# EAGLE library part ADSP-21489KSWZ-5B (library DSPs)
IC CCD SIGNAL PROCESSOR 208LQFP Manufacturer's datasheet <https://www.analog.com/media/en/technical-documentation/data-sheets/ADSP-21483_21486_21487_21488_21489.pdf>
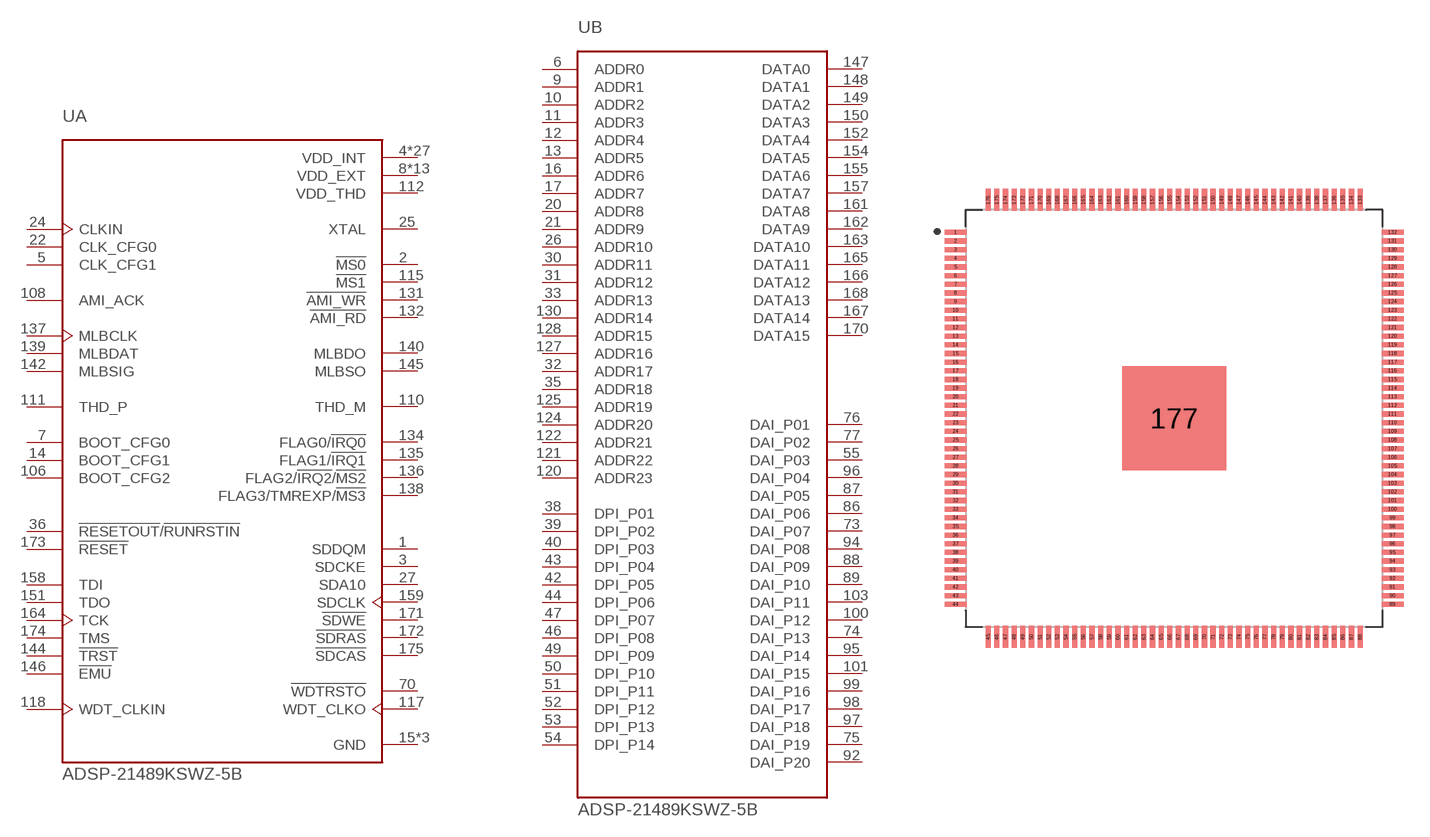
[diagram p6: symbol with the pads of LQFP-176EP; footprint LQFP-176EP]

Designator prefix U; gates A=ADSP-21489KSWZ-5B-1 B=ADSP-21489KSWZ-5B-2

## ADSP-21489KSWZ-5B (CREATED_BY: PCBLayout.com; DIGIKEY_PN: ADSP-21489KSWZ-5B-ND; MANUFACTURER: Analog Devices Inc.; MPN: ADSP-21489KSWZ-5B; PACKAGE: LQFP-176)  [LQFP-176EP]
1  A:SDDQM  out
2  A:!MS0  out
3  A:SDCKE  out
4  A:VDD_INT  pwr
5  A:CLK_CFG1  in
6  B:ADDR0
7  A:BOOT_CFG0  in
8  A:VDD_EXT  pwr
9  B:ADDR1
10  B:ADDR2
11  B:ADDR3
12  B:ADDR4
13  B:ADDR5
14  A:BOOT_CFG1  in
15  A:GND  pwr
16  B:ADDR6
17  B:ADDR7
20  B:ADDR8
21  B:ADDR9
22  A:CLK_CFG0  in
23  A:VDD_INT  pwr
24  A:CLKIN  in
25  A:XTAL  out
26  B:ADDR10
27  A:SDA10  out
28  A:VDD_EXT  pwr
29  A:VDD_INT  pwr
30  B:ADDR11
31  B:ADDR12
32  B:ADDR17
33  B:ADDR13
34  A:VDD_INT  pwr
35  B:ADDR18
36  A:!RESETOUT!/!RUNRSTIN
37  A:VDD_INT  pwr
38  B:DPI_P01
39  B:DPI_P02
40  B:DPI_P03
41  A:VDD_INT  pwr
42  B:DPI_P05
43  B:DPI_P04
44  B:DPI_P06
45  A:VDD_EXT  pwr
46  B:DPI_P08
47  B:DPI_P07
48  A:VDD_INT  pwr
49  B:DPI_P09
50  B:DPI_P10
51  B:DPI_P11
52  B:DPI_P12
53  B:DPI_P13
54  B:DPI_P14
55  B:DAI_P03
57  A:VDD_EXT  pwr
62  A:VDD_INT  pwr
65  A:VDD_INT  pwr
68  A:VDD_INT  pwr
70  A:!WDTRSTO  out
72  A:VDD_EXT  pwr
73  B:DAI_P07
74  B:DAI_P13
75  B:DAI_P19
76  B:DAI_P01
77  B:DAI_P02
78  A:VDD_INT  pwr
84  A:VDD_EXT  pwr
85  A:VDD_INT  pwr
86  B:DAI_P06
87  B:DAI_P05
88  B:DAI_P09
89  B:DAI_P10
90  A:VDD_INT  pwr
91  A:VDD_EXT  pwr
92  B:DAI_P20
93  A:VDD_INT  pwr
94  B:DAI_P08
95  B:DAI_P14
96  B:DAI_P04
97  B:DAI_P18
98  B:DAI_P17
99  B:DAI_P16
100  B:DAI_P12
101  B:DAI_P15
102  A:VDD_INT  pwr
103  B:DAI_P11
104  A:VDD_EXT  pwr
105  A:VDD_INT  pwr
106  A:BOOT_CFG2  in
107  A:VDD_INT  pwr
108  A:AMI_ACK  in
109  A:GND  pwr
110  A:THD_M  out
111  A:THD_P  in
112  A:VDD_THD  pwr
113  A:VDD_INT  pwr
114  A:VDD_INT  pwr
115  A:!MS1  out
116  A:VDD_INT  pwr
117  A:WDT_CLKO  out
118  A:WDT_CLKIN  in
119  A:VDD_EXT  pwr
120  B:ADDR23
121  B:ADDR22
122  B:ADDR21
123  A:VDD_INT  pwr
124  B:ADDR20
125  B:ADDR19
126  A:VDD_EXT  pwr
127  B:ADDR16
128  B:ADDR15
129  A:VDD_INT  pwr
130  B:ADDR14
131  A:!AMI_WR  out
132  A:!AMI_RD  out
133  A:VDD_INT  pwr
134  A:FLAG0/!IRQ0
135  A:FLAG1/!IRQ1
136  A:FLAG2/!IRQ2!/!MS2!
137  A:MLBCLK  in
138  A:FLAG3/TMREXP/!MS3
139  A:MLBDAT
140  A:MLBDO  out
141  A:VDD_EXT  pwr
142  A:MLBSIG
143  A:VDD_INT  pwr
144  A:!TRST  in
145  A:MLBSO  out
146  A:!EMU  out
147  B:DATA0
148  B:DATA1
149  B:DATA2
150  B:DATA3
151  A:TDO  out
152  B:DATA4
153  A:VDD_EXT  pwr
154  B:DATA5
155  B:DATA6
156  A:VDD_INT  pwr
157  B:DATA7
158  A:TDI  in
159  A:SDCLK  out
160  A:VDD_EXT  pwr
161  B:DATA8
162  B:DATA9
163  B:DATA10
164  A:TCK  in
165  B:DATA11
166  B:DATA12
167  B:DATA14
168  B:DATA13
169  A:VDD_INT  pwr
170  B:DATA15
171  A:!SDWE  out
172  A:!SDRAS  out
173  A:!RESET  in
174  A:TMS  in
175  A:!SDCAS  out
176  A:VDD_INT  pwr
177  A:GND  pwr

## Footprint LQFP-176EP (pad centres in mm)
smd 1.26 x 0.3: 1 -12.63,10.75; 2 -12.63,10.25; 3 -12.63,9.75; 4 -12.63,9.25; 5 -12.63,8.75; 6 -12.63,8.25; 7 -12.63,7.75; 8 -12.63,7.25; 9 -12.63,6.75; 10 -12.63,6.25; 11 -12.63,5.75; 12 -12.63,5.25; 13 -12.63,4.75; 14 -12.63,4.25; 15 -12.63,3.75; 16 -12.63,3.25; 17 -12.63,2.75; 18 -12.63,2.25; 19 -12.63,1.75; 20 -12.63,1.25; 21 -12.63,0.75; 22 -12.63,0.25; 23 -12.63,-0.25; 24 -12.63,-0.75; 25 -12.63,-1.25; 26 -12.63,-1.75; 27 -12.63,-2.25; 28 -12.63,-2.75; 29 -12.63,-3.25; 30 -12.63,-3.75; 31 -12.63,-4.25; 32 -12.63,-4.75; 33 -12.63,-5.25; 34 -12.63,-5.75; 35 -12.63,-6.25; 36 -12.63,-6.75; 37 -12.63,-7.25; 38 -12.63,-7.75; 39 -12.63,-8.25; 40 -12.63,-8.75; 41 -12.63,-9.25; 42 -12.63,-9.75; 43 -12.63,-10.25; 44 -12.63,-10.75; 89 12.63,-10.75; 90 12.63,-10.25; 91 12.63,-9.75; 92 12.63,-9.25; 93 12.63,-8.75; 94 12.63,-8.25; 95 12.63,-7.75; 96 12.63,-7.25; 97 12.63,-6.75; 98 12.63,-6.25; 99 12.63,-5.75; 100 12.63,-5.25; 101 12.63,-4.75; 102 12.63,-4.25; 103 12.63,-3.75; 104 12.63,-3.25; 105 12.63,-2.75; 106 12.63,-2.25; 107 12.63,-1.75; 108 12.63,-1.25; 109 12.63,-0.75; 110 12.63,-0.25; 111 12.63,0.25; 112 12.63,0.75; 113 12.63,1.25; 114 12.63,1.75; 115 12.63,2.25; 116 12.63,2.75; 117 12.63,3.25; 118 12.63,3.75; 119 12.63,4.25; 120 12.63,4.75; 121 12.63,5.25; 122 12.63,5.75; 123 12.63,6.25; 124 12.63,6.75; 125 12.63,7.25; 126 12.63,7.75; 127 12.63,8.25; 128 12.63,8.75; 129 12.63,9.25; 130 12.63,9.75; 131 12.63,10.25; 132 12.63,10.75
smd 0.3 x 1.26: 45 -10.75,-12.63; 46 -10.25,-12.63; 47 -9.75,-12.63; 48 -9.25,-12.63; 49 -8.75,-12.63; 50 -8.25,-12.63; 51 -7.75,-12.63; 52 -7.25,-12.63; 53 -6.75,-12.63; 54 -6.25,-12.63; 55 -5.75,-12.63; 56 -5.25,-12.63; 57 -4.75,-12.63; 58 -4.25,-12.63; 59 -3.75,-12.63; 60 -3.25,-12.63; 61 -2.75,-12.63; 62 -2.25,-12.63; 63 -1.75,-12.63; 64 -1.25,-12.63; 65 -0.75,-12.63; 66 -0.25,-12.63; 67 0.25,-12.63; 68 0.75,-12.63; 69 1.25,-12.63; 70 1.75,-12.63; 71 2.25,-12.63; 72 2.75,-12.63; 73 3.25,-12.63; 74 3.75,-12.63; 75 4.25,-12.63; 76 4.75,-12.63; 77 5.25,-12.63; 78 5.75,-12.63; 79 6.25,-12.63; 80 6.75,-12.63; 81 7.25,-12.63; 82 7.75,-12.63; 83 8.25,-12.63; 84 8.75,-12.63; 85 9.25,-12.63; 86 9.75,-12.63; 87 10.25,-12.63; 88 10.75,-12.63; 133 10.75,12.63; 134 10.25,12.63; 135 9.75,12.63; 136 9.25,12.63; 137 8.75,12.63; 138 8.25,12.63; 139 7.75,12.63; 140 7.25,12.63; 141 6.75,12.63; 142 6.25,12.63; 143 5.75,12.63; 144 5.25,12.63; 145 4.75,12.63; 146 4.25,12.63; 147 3.75,12.63; 148 3.25,12.63; 149 2.75,12.63; 150 2.25,12.63; 151 1.75,12.63; 152 1.25,12.63; 153 0.75,12.63; 154 0.25,12.63; 155 -0.25,12.63; 156 -0.75,12.63; 157 -1.25,12.63; 158 -1.75,12.63; 159 -2.25,12.63; 160 -2.75,12.63; 161 -3.25,12.63; 162 -3.75,12.63; 163 -4.25,12.63; 164 -4.75,12.63; 165 -5.25,12.63; 166 -5.75,12.63; 167 -6.25,12.63; 168 -6.75,12.63; 169 -7.25,12.63; 170 -7.75,12.63; 171 -8.25,12.63; 172 -8.75,12.63; 173 -9.25,12.63; 174 -9.75,12.63; 175 -10.25,12.63; 176 -10.75,12.63
smd 6 x 6: 177 0,0